# Altium integrated library TI Power Management LDO Single Channel(400-7500mA).IntLib: 1409 symbols (part 44 of 60)
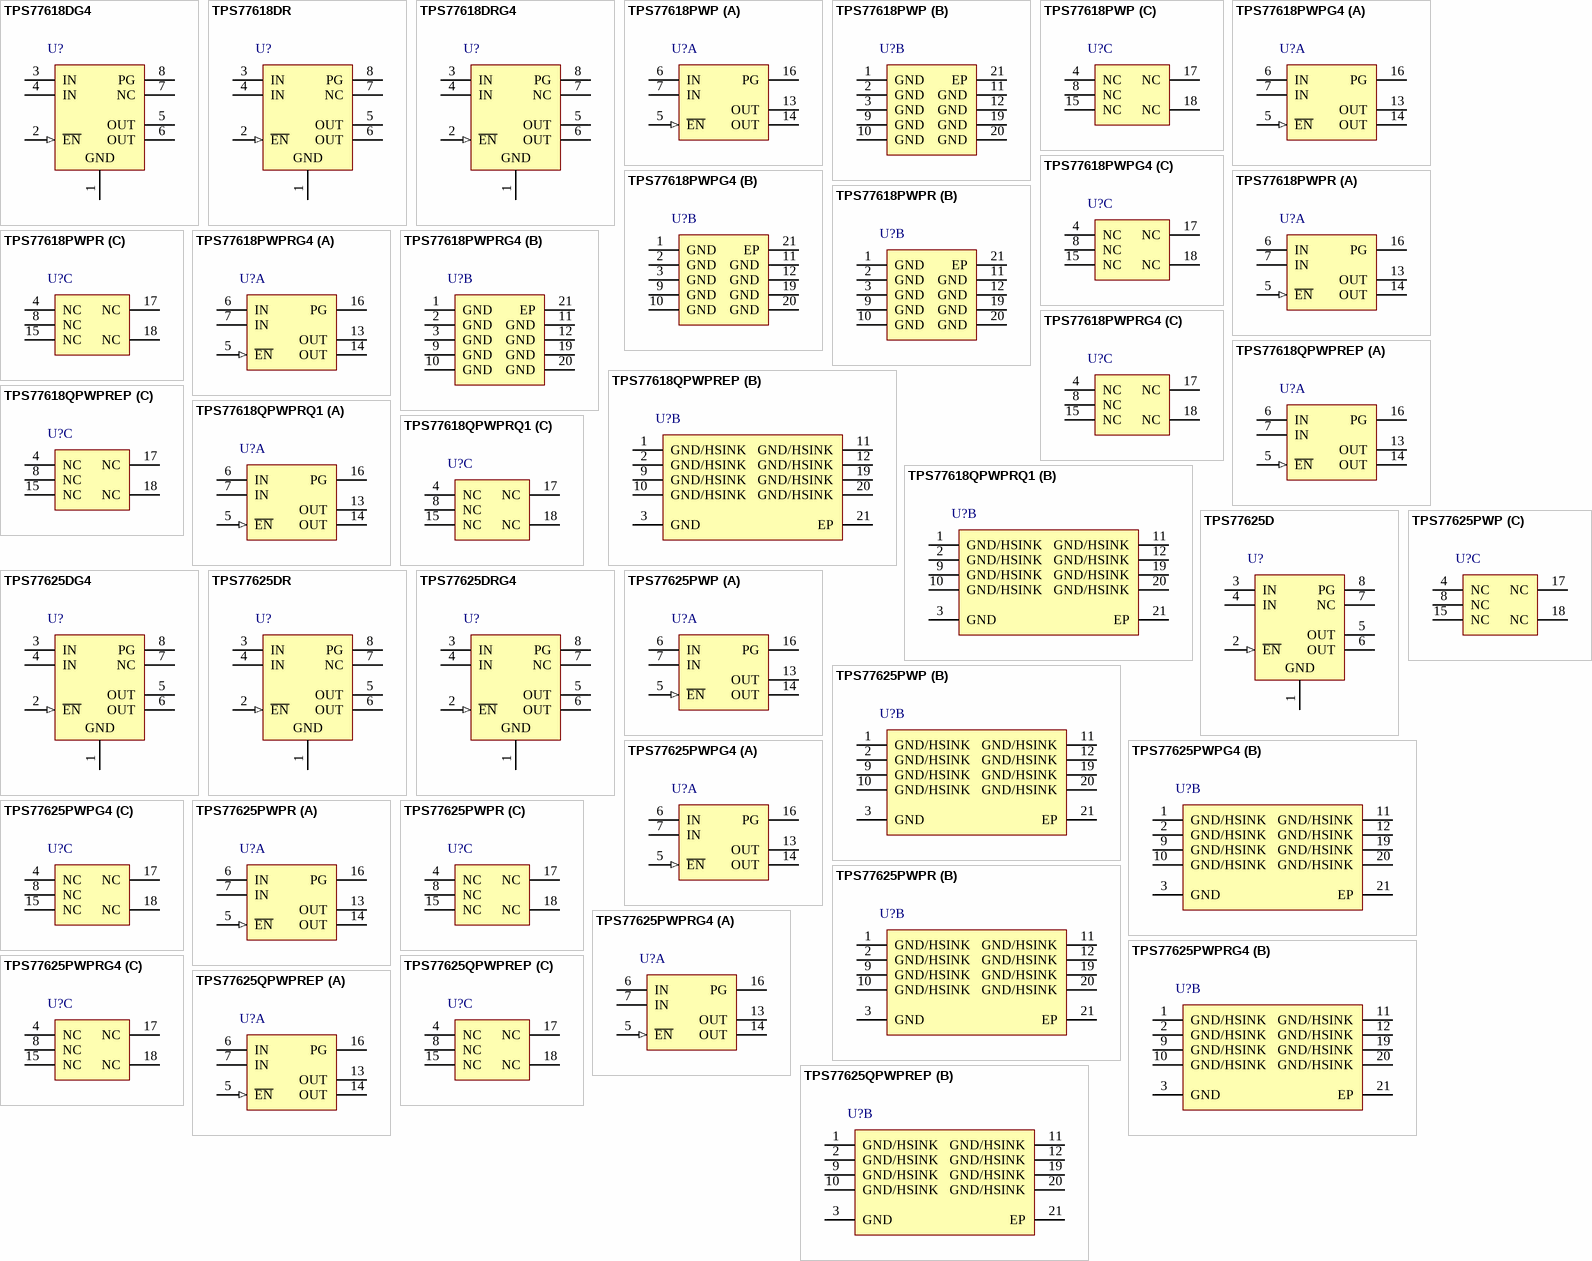
[diagram p93: symbols TPS77618DG4 to TPS77625QPWPREP]

## TPS77618QPWPREP
designator U?
Single Output Fast Transient Response LDO, 500 mA, Fixed 1.8 V Output, 2.7 to 10 V Input, 20-pin HTSSOP (PWP), -40 to 125 degC, Green (RoHS & no Sb/Br); Manufacturer: Texas Instruments; PartNumber: TPS77618QPWPREP; Accuracy(%): 2; Fixed Output Options(V): 1.8; Iout(Max)(A): 0.5; Iq(Typ)(mA): 0.08; Power Good: TRUE; SubFamily: Single Channel LDO; Vdo(Typ)(mV): 169; Vin(Max)(V): 10; Vin(Min)(V): 2.7; DatasheetVersion: SGLS176A; PackageVersion: 4073225-4/I; PackageReference: PWP20-2980X2000TP; PackageDescription: 20-Pin Plastic Small Outline, Body 4.4 x 6.5 mm, Pitch 0.65 mm; Supplier 1: Digi-Key; Supplier Part Number 1: 296-18168-2-ND; Supplier 2: Digi-Key; Supplier Part Number 2: 296-18168-1-ND; Supplier 3: Digi-Key; Supplier Part Number 3: 296-18168-6-ND; Supplier 4: Newark; Supplier Part Number 4: 46M1195; Supplier 5: Mouser; Supplier Part Number 5: 595-TPS77618QPWPREP; Eco-Plan: Green (RoHS & no Sb/Br); Vout Adj(Max)(V): 1.8; Vout Adj(Min)(V): 1.8; Mounting Technology: Surface Mount; Code_JEDEC: MO-153; ComponentLink1Description: Manufacturer URL; ComponentLink1URL: http://www.ti.com/; ComponentLink2Description: Datasheet; ComponentLink2URL: http://www.ti.com/general/docs/lit/getliterature.tsp?genericPartNumber=TPS77618-EP&fileType=pdf; ComponentLink3Description: Package Specification; ComponentLink3URL: http://www.ti.com/litv/pdf/mhts001g
footprint TI-PWP20-2980X2000TP_N (SOP, 20-Leads, Body 6.5x4.4mm, Pitch 0.65mm, Thermal Pad 2.975x2 mm, IPC Medium Density)
footprint TI-PWP20-2980X2000TP_L (SOP, 20-Leads, Body 6.5x4.4mm, Pitch 0.65mm, Thermal Pad 2.975x2 mm, IPC High Density)
footprint TI-PWP20-2980X2000TP_M (SOP, 20-Leads, Body 6.5x4.4mm, Pitch 0.65mm, Thermal Pad 2.975x2 mm, IPC Low Density)
part A pins: 5 ~{EN} (in) "Enable input", 6 IN (power) "Input voltage", 7 IN (power) "Input voltage", 13 OUT (power) "Regulated output voltage", 14 OUT (power) "Regulated output voltage", 16 PG (hiz) "PG output"
part B pins: 1 GND/HSINK (power) "Ground/heatsink", 2 GND/HSINK (power) "Ground/heatsink", 3 GND (power) "Regulator ground", 9 GND/HSINK (power) "Ground/heatsink", 10 GND/HSINK (power) "Ground/heatsink", 11 GND/HSINK (power) "Ground/heatsink", 12 GND/HSINK (power) "Ground/heatsink", 19 GND/HSINK (power) "Ground/heatsink", 20 GND/HSINK (power) "Ground/heatsink", 21 EP "Exposed Thermal Pad"
part C pins: 4 NC "No connect", 8 NC "No connect", 15 NC "No connect", 17 NC "No connect", 18 NC "No connect"

## TPS77618QPWPRQ1
designator U?
Single Output Automotive LDO, 500 mA, Fixed 1.8 V Output, 2.7 to 10 V Input, 20-pin HTSSOP (PWP), -40 to 125 degC, Green (RoHS & no Sb/Br); Manufacturer: Texas Instruments; PartNumber: TPS77618QPWPRQ1; Accuracy(%): 2; Fixed Output Options(V): 1.8; Iout(Max)(A): 0.5; Iq(Typ)(mA): 0.08; Power Good: TRUE; SubFamily: Single Channel LDO; Vdo(Typ)(mV): 169; Vin(Max)(V): 10; Vin(Min)(V): 2.7; DatasheetVersion: SGLS012B; PackageVersion: 4073225-4/I; PackageReference: PWP20-2980X2000TP; PackageDescription: 20-Pin Plastic Small Outline, Body 4.4 x 6.5 mm, Pitch 0.65 mm; Supplier 1: Digi-Key; Supplier Part Number 1: 296-15300-2-ND; Supplier 2: Digi-Key; Supplier Part Number 2: 296-15300-1-ND; Supplier 3: Digi-Key; Supplier Part Number 3: 296-15300-6-ND; Supplier 4: Mouser; Supplier Part Number 4: 595-TPS77618QPWPRQ1; Eco-Plan: Green (RoHS & no Sb/Br); Vout Adj(Max)(V): 1.8; Vout Adj(Min)(V): 1.8; Mounting Technology: Surface Mount; Code_JEDEC: MO-153; ComponentLink1Description: Manufacturer URL; ComponentLink1URL: http://www.ti.com/; ComponentLink2Description: Datasheet; ComponentLink2URL: http://www.ti.com/general/docs/lit/getliterature.tsp?genericPartNumber=TPS77618-Q1&fileType=pdf; ComponentLink3Description: Package Specification; ComponentLink3URL: http://www.ti.com/litv/pdf/mhts001g
footprint TI-PWP20-2980X2000TP_N (SOP, 20-Leads, Body 6.5x4.4mm, Pitch 0.65mm, Thermal Pad 2.975x2 mm, IPC Medium Density)
footprint TI-PWP20-2980X2000TP_L (SOP, 20-Leads, Body 6.5x4.4mm, Pitch 0.65mm, Thermal Pad 2.975x2 mm, IPC High Density)
footprint TI-PWP20-2980X2000TP_M (SOP, 20-Leads, Body 6.5x4.4mm, Pitch 0.65mm, Thermal Pad 2.975x2 mm, IPC Low Density)
part A pins: 5 ~{EN} (in) "Enable input", 6 IN (power) "Input voltage", 7 IN (power) "Input voltage", 13 OUT (power) "Regulated output voltage", 14 OUT (power) "Regulated output voltage", 16 PG (hiz) "PG output"
part B pins: 1 GND/HSINK (power) "Ground/heatsink", 2 GND/HSINK (power) "Ground/heatsink", 3 GND (power) "Regulator ground", 9 GND/HSINK (power) "Ground/heatsink", 10 GND/HSINK (power) "Ground/heatsink", 11 GND/HSINK (power) "Ground/heatsink", 12 GND/HSINK (power) "Ground/heatsink", 19 GND/HSINK (power) "Ground/heatsink", 20 GND/HSINK (power) "Ground/heatsink", 21 EP (power)
part C pins: 4 NC "No connect", 8 NC "No connect", 15 NC "No connect", 17 NC "No connect", 18 NC "No connect"

## TPS77625D
designator U?
Single Output Fast Transient Response LDO, 500 mA, Fixed 2.5 V Output, 2.7 to 10 V Input, with Power Good Output, 8-pin SOIC (D), -40 to 125 degC, Green (RoHS & no Sb/Br); Manufacturer: Texas Instruments; PartNumber: TPS77625D; Accuracy(%): 2; Fixed Output Options(V): 2.5; Iout(Max)(A): 0.5; Iq(Typ)(mA): 0.08; Power Good: TRUE; SubFamily: Single Channel LDO; Vdo(Typ)(mV): 285; Vin(Max)(V): 10; Vin(Min)(V): 2.7; DatasheetVersion: SLVS232J; PackageVersion: 4040047-3/M; PackageReference: D8; PackageDescription: 8-Pin Plastic Small Outline, Body 4.9 x 3.9 mm, Pitch 1.27 mm; Supplier 1: Digi-Key; Supplier Part Number 1: 296-2780-5-ND; Supplier 2: Farnell; Supplier Part Number 2: 8461651; Supplier 3: Newark; Supplier Part Number 3: 19C9103; Supplier 4: Mouser; Supplier Part Number 4: 595-TPS77625D; Eco-Plan: Green (RoHS & no Sb/Br); Vout Adj(Max)(V): 2.5; Vout Adj(Min)(V): 2.5; Mounting Technology: Surface Mount; Code_JEDEC: MS-012; ComponentLink1Description: Manufacturer URL; ComponentLink1URL: http://www.ti.com/; ComponentLink2Description: Datasheet; ComponentLink2URL: http://www.ti.com/general/docs/lit/getliterature.tsp?genericPartNumber=TPS77625&fileType=pdf; ComponentLink3Description: Package Specification; ComponentLink3URL: http://www.ti.com/litv/pdf/msoi002j
footprint TI-D8_N (SOIC, 8-Leads, Body 4.9x3.9mm, Pitch 1.27mm, IPC Medium Density)
footprint TI-D8_L (SOIC, 8-Leads, Body 4.9x3.9mm, Pitch 1.27mm, IPC High Density)
footprint TI-D8_M (SOIC, 8-Leads, Body 4.9x3.9mm, Pitch 1.27mm, IPC Low Density)
pins: 1 GND (power) "Ground", 2 ~{EN} (in) "Negative polarity enable (E\N\) input", 3 IN (power) "Input voltage", 4 IN (power) "Input voltage", 5 OUT (power) "Regulated output voltage", 6 OUT (power) "Regulated output voltage", 7 NC "No internal connection", 8 PG (hiz) "Open-drain power-good (PG) output."

## TPS77625DG4
designator U?
Single Output Fast Transient Response LDO, 500 mA, Fixed 2.5 V Output, 2.7 to 10 V Input, with Power Good Output, 8-pin SOIC (D), -40 to 125 degC, Green (RoHS & no Sb/Br); Manufacturer: Texas Instruments; PartNumber: TPS77625DG4; Accuracy(%): 2; Fixed Output Options(V): 2.5; Iout(Max)(A): 0.5; Iq(Typ)(mA): 0.08; Power Good: TRUE; SubFamily: Single Channel LDO; Vdo(Typ)(mV): 285; Vin(Max)(V): 10; Vin(Min)(V): 2.7; DatasheetVersion: SLVS232J; PackageVersion: 4040047-3/M; PackageReference: D8; PackageDescription: 8-Pin Plastic Small Outline, Body 4.9 x 3.9 mm, Pitch 1.27 mm; Supplier 1: Digi-Key; Supplier Part Number 1: TPS77625DG4-ND; Supplier 2: Mouser; Supplier Part Number 2: 595-TPS77625DG4; Eco-Plan: Green (RoHS & no Sb/Br); Vout Adj(Max)(V): 2.5; Vout Adj(Min)(V): 2.5; Mounting Technology: Surface Mount; Code_JEDEC: MS-012; ComponentLink1Description: Manufacturer URL; ComponentLink1URL: http://www.ti.com/; ComponentLink2Description: Datasheet; ComponentLink2URL: http://www.ti.com/general/docs/lit/getliterature.tsp?genericPartNumber=TPS77625&fileType=pdf; ComponentLink3Description: Package Specification; ComponentLink3URL: http://www.ti.com/litv/pdf/msoi002j
footprint TI-D8_N (SOIC, 8-Leads, Body 4.9x3.9mm, Pitch 1.27mm, IPC Medium Density)
footprint TI-D8_L (SOIC, 8-Leads, Body 4.9x3.9mm, Pitch 1.27mm, IPC High Density)
footprint TI-D8_M (SOIC, 8-Leads, Body 4.9x3.9mm, Pitch 1.27mm, IPC Low Density)
pins: 1 GND (power) "Ground", 2 ~{EN} (in) "Negative polarity enable (E\N\) input", 3 IN (power) "Input voltage", 4 IN (power) "Input voltage", 5 OUT (power) "Regulated output voltage", 6 OUT (power) "Regulated output voltage", 7 NC "No internal connection", 8 PG (hiz) "Open-drain power-good (PG) output."

## TPS77625DR
designator U?
Single Output Fast Transient Response LDO, 500 mA, Fixed 2.5 V Output, 2.7 to 10 V Input, with Power Good Output, 8-pin SOIC (D), -40 to 125 degC, Green (RoHS & no Sb/Br); Manufacturer: Texas Instruments; PartNumber: TPS77625DR; Accuracy(%): 2; Fixed Output Options(V): 2.5; Iout(Max)(A): 0.5; Iq(Typ)(mA): 0.08; Power Good: TRUE; SubFamily: Single Channel LDO; Vdo(Typ)(mV): 285; Vin(Max)(V): 10; Vin(Min)(V): 2.7; DatasheetVersion: SLVS232J; PackageVersion: 4040047-3/M; PackageReference: D8; PackageDescription: 8-Pin Plastic Small Outline, Body 4.9 x 3.9 mm, Pitch 1.27 mm; Supplier 1: Digi-Key; Supplier Part Number 1: TPS77625DR-ND; Supplier 2: Newark; Supplier Part Number 2: 77C1270; Supplier 3: Mouser; Supplier Part Number 3: 595-TPS77625DR; Eco-Plan: Green (RoHS & no Sb/Br); Vout Adj(Max)(V): 2.5; Vout Adj(Min)(V): 2.5; Mounting Technology: Surface Mount; Code_JEDEC: MS-012; ComponentLink1Description: Manufacturer URL; ComponentLink1URL: http://www.ti.com/; ComponentLink2Description: Datasheet; ComponentLink2URL: http://www.ti.com/general/docs/lit/getliterature.tsp?genericPartNumber=TPS77625&fileType=pdf; ComponentLink3Description: Package Specification; ComponentLink3URL: http://www.ti.com/litv/pdf/msoi002j
footprint TI-D8_N (SOIC, 8-Leads, Body 4.9x3.9mm, Pitch 1.27mm, IPC Medium Density)
footprint TI-D8_L (SOIC, 8-Leads, Body 4.9x3.9mm, Pitch 1.27mm, IPC High Density)
footprint TI-D8_M (SOIC, 8-Leads, Body 4.9x3.9mm, Pitch 1.27mm, IPC Low Density)
pins: 1 GND (power) "Ground", 2 ~{EN} (in) "Negative polarity enable (E\N\) input", 3 IN (power) "Input voltage", 4 IN (power) "Input voltage", 5 OUT (power) "Regulated output voltage", 6 OUT (power) "Regulated output voltage", 7 NC "No internal connection", 8 PG (hiz) "Open-drain power-good (PG) output."

## TPS77625DRG4
designator U?
Single Output Fast Transient Response LDO, 500 mA, Fixed 2.5 V Output, 2.7 to 10 V Input, with Power Good Output, 8-pin SOIC (D), -40 to 125 degC, Green (RoHS & no Sb/Br); Manufacturer: Texas Instruments; PartNumber: TPS77625DRG4; Accuracy(%): 2; Fixed Output Options(V): 2.5; Iout(Max)(A): 0.5; Iq(Typ)(mA): 0.08; Power Good: TRUE; SubFamily: Single Channel LDO; Vdo(Typ)(mV): 285; Vin(Max)(V): 10; Vin(Min)(V): 2.7; DatasheetVersion: SLVS232J; PackageVersion: 4040047-3/M; PackageReference: D8; PackageDescription: 8-Pin Plastic Small Outline, Body 4.9 x 3.9 mm, Pitch 1.27 mm; Supplier 1: Digi-Key; Supplier Part Number 1: TPS77625DRG4-ND; Supplier 2: Mouser; Supplier Part Number 2: 595-TPS77625DRG4; Eco-Plan: Green (RoHS & no Sb/Br); Vout Adj(Max)(V): 2.5; Vout Adj(Min)(V): 2.5; Mounting Technology: Surface Mount; Code_JEDEC: MS-012; ComponentLink1Description: Manufacturer URL; ComponentLink1URL: http://www.ti.com/; ComponentLink2Description: Datasheet; ComponentLink2URL: http://www.ti.com/general/docs/lit/getliterature.tsp?genericPartNumber=TPS77625&fileType=pdf; ComponentLink3Description: Package Specification; ComponentLink3URL: http://www.ti.com/litv/pdf/msoi002j
footprint TI-D8_N (SOIC, 8-Leads, Body 4.9x3.9mm, Pitch 1.27mm, IPC Medium Density)
footprint TI-D8_L (SOIC, 8-Leads, Body 4.9x3.9mm, Pitch 1.27mm, IPC High Density)
footprint TI-D8_M (SOIC, 8-Leads, Body 4.9x3.9mm, Pitch 1.27mm, IPC Low Density)
pins: 1 GND (power) "Ground", 2 ~{EN} (in) "Negative polarity enable (E\N\) input", 3 IN (power) "Input voltage", 4 IN (power) "Input voltage", 5 OUT (power) "Regulated output voltage", 6 OUT (power) "Regulated output voltage", 7 NC "No internal connection", 8 PG (hiz) "Open-drain power-good (PG) output."

## TPS77625PWP
designator U?
Single Output Fast Transient Response LDO, 500 mA, Fixed 2.5 V Output, 2.7 to 10 V Input, with Power Good Output, 20-pin HTSSOP (PWP), -40 to 125 degC, Green (RoHS & no Sb/Br); Manufacturer: Texas Instruments; PartNumber: TPS77625PWP; Accuracy(%): 2; Fixed Output Options(V): 2.5; Iout(Max)(A): 0.5; Iq(Typ)(mA): 0.08; Power Good: TRUE; SubFamily: Single Channel LDO; Vdo(Typ)(mV): 285; Vin(Max)(V): 10; Vin(Min)(V): 2.7; DatasheetVersion: SLVS232J; PackageVersion: 4073225-4/I; PackageReference: PWP20-2980X2000TP; PackageDescription: 20-Pin Plastic Small Outline, Body 4.4 x 6.5 mm, Pitch 0.65 mm; Supplier 1: Digi-Key; Supplier Part Number 1: 296-8129-5-ND; Supplier 2: Newark; Supplier Part Number 2: 77C1271; Supplier 3: Mouser; Supplier Part Number 3: 595-TPS77625PWP; Eco-Plan: Green (RoHS & no Sb/Br); Vout Adj(Max)(V): 2.5; Vout Adj(Min)(V): 2.5; Mounting Technology: Surface Mount; Code_JEDEC: MO-153; ComponentLink1Description: Manufacturer URL; ComponentLink1URL: http://www.ti.com/; ComponentLink2Description: Datasheet; ComponentLink2URL: http://www.ti.com/general/docs/lit/getliterature.tsp?genericPartNumber=TPS77625&fileType=pdf; ComponentLink3Description: Package Specification; ComponentLink3URL: http://www.ti.com/litv/pdf/mhts001g
footprint TI-PWP20-2980X2000TP_N (SOP, 20-Leads, Body 6.5x4.4mm, Pitch 0.65mm, Thermal Pad 2.975x2 mm, IPC Medium Density)
footprint TI-PWP20-2980X2000TP_L (SOP, 20-Leads, Body 6.5x4.4mm, Pitch 0.65mm, Thermal Pad 2.975x2 mm, IPC High Density)
footprint TI-PWP20-2980X2000TP_M (SOP, 20-Leads, Body 6.5x4.4mm, Pitch 0.65mm, Thermal Pad 2.975x2 mm, IPC Low Density)
part A pins: 5 ~{EN} (in) "Enable input", 6 IN (power) "Input voltage", 7 IN (power) "Input voltage", 13 OUT (power) "Regulated output voltage", 14 OUT (power) "Regulated output voltage", 16 PG (hiz) "PG output"
part B pins: 1 GND/HSINK (power) "Ground/heatsink", 2 GND/HSINK (power) "Ground/heatsink", 3 GND (power) "Regulator ground", 9 GND/HSINK (power) "Ground/heatsink", 10 GND/HSINK (power) "Ground/heatsink", 11 GND/HSINK (power) "Ground/heatsink", 12 GND/HSINK (power) "Ground/heatsink", 19 GND/HSINK (power) "Ground/heatsink", 20 GND/HSINK (power) "Ground/heatsink", 21 EP (power)
part C pins: 4 NC "No connect", 8 NC "No connect", 15 NC "No connect", 17 NC "No connect", 18 NC "No connect"

## TPS77625PWPG4
designator U?
Single Output Fast Transient Response LDO, 500 mA, Fixed 2.5 V Output, 2.7 to 10 V Input, with Power Good Output, 20-pin HTSSOP (PWP), -40 to 125 degC, Green (RoHS & no Sb/Br); Manufacturer: Texas Instruments; PartNumber: TPS77625PWPG4; Accuracy(%): 2; Fixed Output Options(V): 2.5; Iout(Max)(A): 0.5; Iq(Typ)(mA): 0.08; Power Good: TRUE; SubFamily: Single Channel LDO; Vdo(Typ)(mV): 285; Vin(Max)(V): 10; Vin(Min)(V): 2.7; DatasheetVersion: SLVS232J; PackageVersion: 4073225-4/I; PackageReference: PWP20-2980X2000TP; PackageDescription: 20-Pin Plastic Small Outline, Body 4.4 x 6.5 mm, Pitch 0.65 mm; Supplier 1: Digi-Key; Supplier Part Number 1: TPS77625PWPG4-ND; Supplier 2: Mouser; Supplier Part Number 2: 595-TPS77625PWPG4; Eco-Plan: Green (RoHS & no Sb/Br); Vout Adj(Max)(V): 2.5; Vout Adj(Min)(V): 2.5; Mounting Technology: Surface Mount; Code_JEDEC: MO-153; ComponentLink1Description: Manufacturer URL; ComponentLink1URL: http://www.ti.com/; ComponentLink2Description: Datasheet; ComponentLink2URL: http://www.ti.com/general/docs/lit/getliterature.tsp?genericPartNumber=TPS77625&fileType=pdf; ComponentLink3Description: Package Specification; ComponentLink3URL: http://www.ti.com/litv/pdf/mhts001g
footprint TI-PWP20-2980X2000TP_N (SOP, 20-Leads, Body 6.5x4.4mm, Pitch 0.65mm, Thermal Pad 2.975x2 mm, IPC Medium Density)
footprint TI-PWP20-2980X2000TP_L (SOP, 20-Leads, Body 6.5x4.4mm, Pitch 0.65mm, Thermal Pad 2.975x2 mm, IPC High Density)
footprint TI-PWP20-2980X2000TP_M (SOP, 20-Leads, Body 6.5x4.4mm, Pitch 0.65mm, Thermal Pad 2.975x2 mm, IPC Low Density)
part A pins: 5 ~{EN} (in) "Enable input", 6 IN (power) "Input voltage", 7 IN (power) "Input voltage", 13 OUT (power) "Regulated output voltage", 14 OUT (power) "Regulated output voltage", 16 PG (hiz) "PG output"
part B pins: 1 GND/HSINK (power) "Ground/heatsink", 2 GND/HSINK (power) "Ground/heatsink", 3 GND (power) "Regulator ground", 9 GND/HSINK (power) "Ground/heatsink", 10 GND/HSINK (power) "Ground/heatsink", 11 GND/HSINK (power) "Ground/heatsink", 12 GND/HSINK (power) "Ground/heatsink", 19 GND/HSINK (power) "Ground/heatsink", 20 GND/HSINK (power) "Ground/heatsink", 21 EP (power)
part C pins: 4 NC "No connect", 8 NC "No connect", 15 NC "No connect", 17 NC "No connect", 18 NC "No connect"

## TPS77625PWPR
designator U?
Single Output Fast Transient Response LDO, 500 mA, Fixed 2.5 V Output, 2.7 to 10 V Input, with Power Good Output, 20-pin HTSSOP (PWP), -40 to 125 degC, Green (RoHS & no Sb/Br); Manufacturer: Texas Instruments; PartNumber: TPS77625PWPR; Accuracy(%): 2; Fixed Output Options(V): 2.5; Iout(Max)(A): 0.5; Iq(Typ)(mA): 0.08; Power Good: TRUE; SubFamily: Single Channel LDO; Vdo(Typ)(mV): 285; Vin(Max)(V): 10; Vin(Min)(V): 2.7; DatasheetVersion: SLVS232J; PackageVersion: 4073225-4/I; PackageReference: PWP20-2980X2000TP; PackageDescription: 20-Pin Plastic Small Outline, Body 4.4 x 6.5 mm, Pitch 0.65 mm; Supplier 1: Digi-Key; Supplier Part Number 1: TPS77625PWPR-ND; Supplier 2: Mouser; Supplier Part Number 2: 595-TPS77625PWPR; Eco-Plan: Green (RoHS & no Sb/Br); Vout Adj(Max)(V): 2.5; Vout Adj(Min)(V): 2.5; Mounting Technology: Surface Mount; Code_JEDEC: MO-153; ComponentLink1Description: Manufacturer URL; ComponentLink1URL: http://www.ti.com/; ComponentLink2Description: Datasheet; ComponentLink2URL: http://www.ti.com/general/docs/lit/getliterature.tsp?genericPartNumber=TPS77625&fileType=pdf; ComponentLink3Description: Package Specification; ComponentLink3URL: http://www.ti.com/litv/pdf/mhts001g
footprint TI-PWP20-2980X2000TP_N (SOP, 20-Leads, Body 6.5x4.4mm, Pitch 0.65mm, Thermal Pad 2.975x2 mm, IPC Medium Density)
footprint TI-PWP20-2980X2000TP_L (SOP, 20-Leads, Body 6.5x4.4mm, Pitch 0.65mm, Thermal Pad 2.975x2 mm, IPC High Density)
footprint TI-PWP20-2980X2000TP_M (SOP, 20-Leads, Body 6.5x4.4mm, Pitch 0.65mm, Thermal Pad 2.975x2 mm, IPC Low Density)
part A pins: 5 ~{EN} (in) "Enable input", 6 IN (power) "Input voltage", 7 IN (power) "Input voltage", 13 OUT (power) "Regulated output voltage", 14 OUT (power) "Regulated output voltage", 16 PG (hiz) "PG output"
part B pins: 1 GND/HSINK (power) "Ground/heatsink", 2 GND/HSINK (power) "Ground/heatsink", 3 GND (power) "Regulator ground", 9 GND/HSINK (power) "Ground/heatsink", 10 GND/HSINK (power) "Ground/heatsink", 11 GND/HSINK (power) "Ground/heatsink", 12 GND/HSINK (power) "Ground/heatsink", 19 GND/HSINK (power) "Ground/heatsink", 20 GND/HSINK (power) "Ground/heatsink", 21 EP (power)
part C pins: 4 NC "No connect", 8 NC "No connect", 15 NC "No connect", 17 NC "No connect", 18 NC "No connect"

## TPS77625PWPRG4
designator U?
Single Output Fast Transient Response LDO, 500 mA, Fixed 2.5 V Output, 2.7 to 10 V Input, with Power Good Output, 20-pin HTSSOP (PWP), -40 to 125 degC, Green (RoHS & no Sb/Br); Manufacturer: Texas Instruments; PartNumber: TPS77625PWPRG4; Accuracy(%): 2; Fixed Output Options(V): 2.5; Iout(Max)(A): 0.5; Iq(Typ)(mA): 0.08; Power Good: TRUE; SubFamily: Single Channel LDO; Vdo(Typ)(mV): 285; Vin(Max)(V): 10; Vin(Min)(V): 2.7; DatasheetVersion: SLVS232J; PackageVersion: 4073225-4/I; PackageReference: PWP20-2980X2000TP; PackageDescription: 20-Pin Plastic Small Outline, Body 4.4 x 6.5 mm, Pitch 0.65 mm; Supplier 1: Digi-Key; Supplier Part Number 1: TPS77625PWPRG4-ND; Supplier 2: Mouser; Supplier Part Number 2: 595-TPS77625PWPRG4; Eco-Plan: Green (RoHS & no Sb/Br); Vout Adj(Max)(V): 2.5; Vout Adj(Min)(V): 2.5; Mounting Technology: Surface Mount; Code_JEDEC: MO-153; ComponentLink1Description: Manufacturer URL; ComponentLink1URL: http://www.ti.com/; ComponentLink2Description: Datasheet; ComponentLink2URL: http://www.ti.com/general/docs/lit/getliterature.tsp?genericPartNumber=TPS77625&fileType=pdf; ComponentLink3Description: Package Specification; ComponentLink3URL: http://www.ti.com/litv/pdf/mhts001g
footprint TI-PWP20-2980X2000TP_N (SOP, 20-Leads, Body 6.5x4.4mm, Pitch 0.65mm, Thermal Pad 2.975x2 mm, IPC Medium Density)
footprint TI-PWP20-2980X2000TP_L (SOP, 20-Leads, Body 6.5x4.4mm, Pitch 0.65mm, Thermal Pad 2.975x2 mm, IPC High Density)
footprint TI-PWP20-2980X2000TP_M (SOP, 20-Leads, Body 6.5x4.4mm, Pitch 0.65mm, Thermal Pad 2.975x2 mm, IPC Low Density)
part A pins: 5 ~{EN} (in) "Enable input", 6 IN (power) "Input voltage", 7 IN (power) "Input voltage", 13 OUT (power) "Regulated output voltage", 14 OUT (power) "Regulated output voltage", 16 PG (hiz) "PG output"
part B pins: 1 GND/HSINK (power) "Ground/heatsink", 2 GND/HSINK (power) "Ground/heatsink", 3 GND (power) "Regulator ground", 9 GND/HSINK (power) "Ground/heatsink", 10 GND/HSINK (power) "Ground/heatsink", 11 GND/HSINK (power) "Ground/heatsink", 12 GND/HSINK (power) "Ground/heatsink", 19 GND/HSINK (power) "Ground/heatsink", 20 GND/HSINK (power) "Ground/heatsink", 21 EP (power)
part C pins: 4 NC "No connect", 8 NC "No connect", 15 NC "No connect", 17 NC "No connect", 18 NC "No connect"

## TPS77625QPWPREP
designator U?
Single Output Fast Transient Response LDO, 500 mA, Fixed 2.5 V Output, 2.7 to 10 V Input, 20-pin HTSSOP (PWP), -40 to 125 degC, Green (RoHS & no Sb/Br); Manufacturer: Texas Instruments; PartNumber: TPS77625QPWPREP; Accuracy(%): 2; Fixed Output Options(V): 2.5; Iout(Max)(A): 0.5; Iq(Typ)(mA): 0.08; Power Good: TRUE; SubFamily: Single Channel LDO; Vdo(Typ)(mV): 169; Vin(Max)(V): 10; Vin(Min)(V): 2.7; DatasheetVersion: SGLS176A; PackageVersion: 4073225-4/I; PackageReference: PWP20-2980X2000TP; PackageDescription: 20-Pin Plastic Small Outline, Body 4.4 x 6.5 mm, Pitch 0.65 mm; Supplier 1: Digi-Key; Supplier Part Number 1: 296-22521-2-ND; Supplier 2: Digi-Key; Supplier Part Number 2: 296-22521-1-ND; Supplier 3: Digi-Key; Supplier Part Number 3: 296-22521-6-ND; Supplier 4: Newark; Supplier Part Number 4: 46M1196; Supplier 5: Mouser; Supplier Part Number 5: 595-TPS77625QPWPREP; Eco-Plan: Green (RoHS & no Sb/Br); Vout Adj(Max)(V): 2.5; Vout Adj(Min)(V): 2.5; Mounting Technology: Surface Mount; Code_JEDEC: MO-153; ComponentLink1Description: Manufacturer URL; ComponentLink1URL: http://www.ti.com/; ComponentLink2Description: Datasheet; ComponentLink2URL: http://www.ti.com/general/docs/lit/getliterature.tsp?genericPartNumber=TPS77625-EP&fileType=pdf; ComponentLink3Description: Package Specification; ComponentLink3URL: http://www.ti.com/litv/pdf/mhts001g
footprint TI-PWP20-2980X2000TP_N (SOP, 20-Leads, Body 6.5x4.4mm, Pitch 0.65mm, Thermal Pad 2.975x2 mm, IPC Medium Density)
footprint TI-PWP20-2980X2000TP_L (SOP, 20-Leads, Body 6.5x4.4mm, Pitch 0.65mm, Thermal Pad 2.975x2 mm, IPC High Density)
footprint TI-PWP20-2980X2000TP_M (SOP, 20-Leads, Body 6.5x4.4mm, Pitch 0.65mm, Thermal Pad 2.975x2 mm, IPC Low Density)
part A pins: 5 ~{EN} (in) "Enable input", 6 IN (power) "Input voltage", 7 IN (power) "Input voltage", 13 OUT (power) "Regulated output voltage", 14 OUT (power) "Regulated output voltage", 16 PG (hiz) "PG output"
part B pins: 1 GND/HSINK (power) "Ground/heatsink", 2 GND/HSINK (power) "Ground/heatsink", 3 GND (power) "Regulator ground", 9 GND/HSINK (power) "Ground/heatsink", 10 GND/HSINK (power) "Ground/heatsink", 11 GND/HSINK (power) "Ground/heatsink", 12 GND/HSINK (power) "Ground/heatsink", 19 GND/HSINK (power) "Ground/heatsink", 20 GND/HSINK (power) "Ground/heatsink", 21 EP "Exposed Thermal Pad"
part C pins: 4 NC "No connect", 8 NC "No connect", 15 NC "No connect", 17 NC "No connect", 18 NC "No connect"

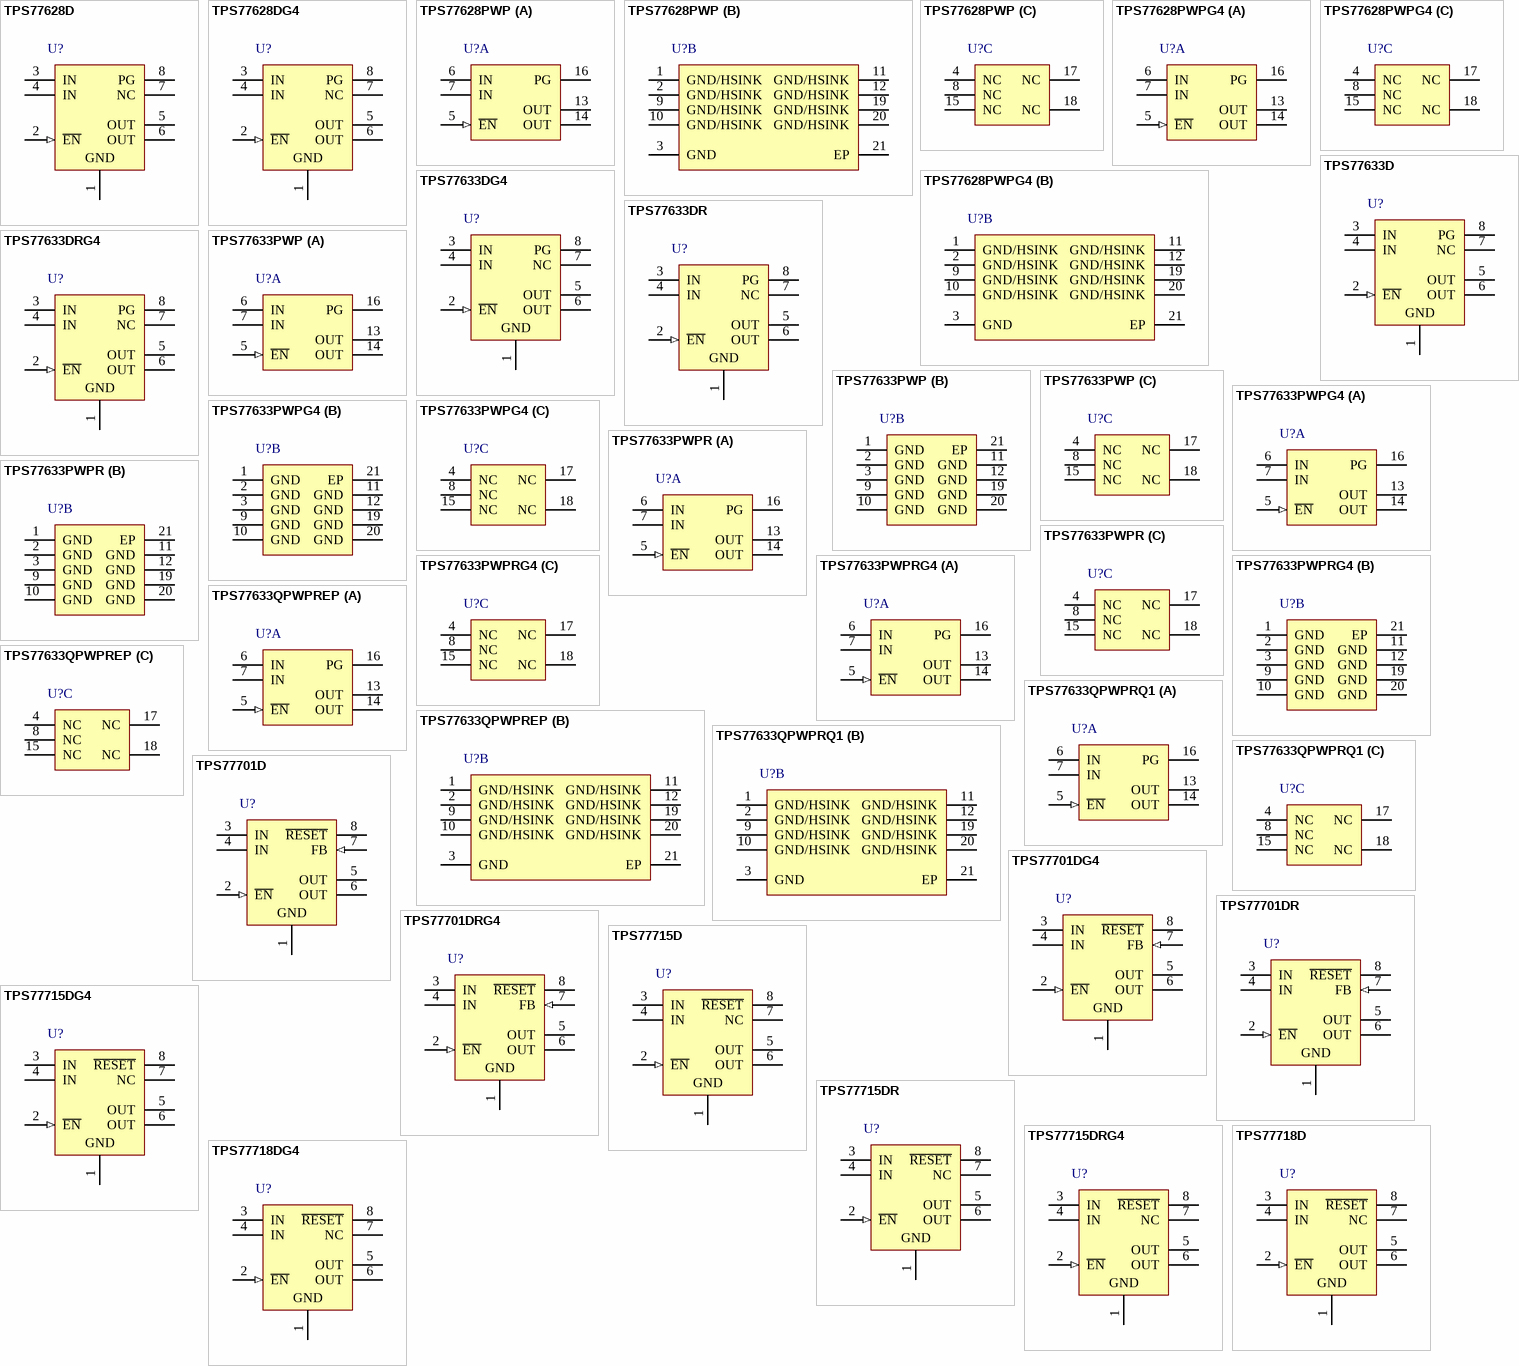
[diagram p39: symbols TPS77628D to TPS77718DG4]

## TPS77628D
designator U?
Single Output Fast Transient Response LDO, 500 mA, Fixed 2.8 V Output, 2.7 to 10 V Input, with Power Good Output, 8-pin SOIC (D), -40 to 125 degC, Green (RoHS & no Sb/Br); Manufacturer: Texas Instruments; PartNumber: TPS77628D; Accuracy(%): 2; Fixed Output Options(V): 2.8; Iout(Max)(A): 0.5; Iq(Typ)(mA): 0.08; Power Good: TRUE; SubFamily: Single Channel LDO; Vdo(Typ)(mV): 285; Vin(Max)(V): 10; Vin(Min)(V): 2.7; DatasheetVersion: SLVS232J; PackageVersion: 4040047-3/M; PackageReference: D8; PackageDescription: 8-Pin Plastic Small Outline, Body 4.9 x 3.9 mm, Pitch 1.27 mm; Supplier 1: Digi-Key; Supplier Part Number 1: 296-2781-5-ND; Supplier 2: Mouser; Supplier Part Number 2: 595-TPS77628D; Eco-Plan: Green (RoHS & no Sb/Br); Vout Adj(Max)(V): 2.8; Vout Adj(Min)(V): 2.8; Mounting Technology: Surface Mount; Code_JEDEC: MS-012; ComponentLink1Description: Manufacturer URL; ComponentLink1URL: http://www.ti.com/; ComponentLink2Description: Datasheet; ComponentLink2URL: http://www.ti.com/general/docs/lit/getliterature.tsp?genericPartNumber=TPS77628&fileType=pdf; ComponentLink3Description: Package Specification; ComponentLink3URL: http://www.ti.com/litv/pdf/msoi002j
footprint TI-D8_N (SOIC, 8-Leads, Body 4.9x3.9mm, Pitch 1.27mm, IPC Medium Density)
footprint TI-D8_L (SOIC, 8-Leads, Body 4.9x3.9mm, Pitch 1.27mm, IPC High Density)
footprint TI-D8_M (SOIC, 8-Leads, Body 4.9x3.9mm, Pitch 1.27mm, IPC Low Density)
pins: 1 GND (power) "Ground", 2 ~{EN} (in) "Negative polarity enable (E\N\) input", 3 IN (power) "Input voltage", 4 IN (power) "Input voltage", 5 OUT (power) "Regulated output voltage", 6 OUT (power) "Regulated output voltage", 7 NC "No internal connection", 8 PG (hiz) "Open-drain power-good (PG) output."

## TPS77628DG4
designator U?
Single Output Fast Transient Response LDO, 500 mA, Fixed 2.8 V Output, 2.7 to 10 V Input, with Power Good Output, 8-pin SOIC (D), -40 to 125 degC, Green (RoHS & no Sb/Br); Manufacturer: Texas Instruments; PartNumber: TPS77628DG4; Accuracy(%): 2; Fixed Output Options(V): 2.8; Iout(Max)(A): 0.5; Iq(Typ)(mA): 0.08; Power Good: TRUE; SubFamily: Single Channel LDO; Vdo(Typ)(mV): 285; Vin(Max)(V): 10; Vin(Min)(V): 2.7; DatasheetVersion: SLVS232J; PackageVersion: 4040047-3/M; PackageReference: D8; PackageDescription: 8-Pin Plastic Small Outline, Body 4.9 x 3.9 mm, Pitch 1.27 mm; Supplier 1: Digi-Key; Supplier Part Number 1: TPS77628DG4-ND; Supplier 2: Mouser; Supplier Part Number 2: 595-TPS77628DG4; Eco-Plan: Green (RoHS & no Sb/Br); Vout Adj(Max)(V): 2.8; Vout Adj(Min)(V): 2.8; Mounting Technology: Surface Mount; Code_JEDEC: MS-012; ComponentLink1Description: Manufacturer URL; ComponentLink1URL: http://www.ti.com/; ComponentLink2Description: Datasheet; ComponentLink2URL: http://www.ti.com/general/docs/lit/getliterature.tsp?genericPartNumber=TPS77628&fileType=pdf; ComponentLink3Description: Package Specification; ComponentLink3URL: http://www.ti.com/litv/pdf/msoi002j
footprint TI-D8_N (SOIC, 8-Leads, Body 4.9x3.9mm, Pitch 1.27mm, IPC Medium Density)
footprint TI-D8_L (SOIC, 8-Leads, Body 4.9x3.9mm, Pitch 1.27mm, IPC High Density)
footprint TI-D8_M (SOIC, 8-Leads, Body 4.9x3.9mm, Pitch 1.27mm, IPC Low Density)
pins: 1 GND (power) "Ground", 2 ~{EN} (in) "Negative polarity enable (E\N\) input", 3 IN (power) "Input voltage", 4 IN (power) "Input voltage", 5 OUT (power) "Regulated output voltage", 6 OUT (power) "Regulated output voltage", 7 NC "No internal connection", 8 PG (hiz) "Open-drain power-good (PG) output."

## TPS77628PWP
designator U?
Single Output Fast Transient Response LDO, 500 mA, Fixed 2.8 V Output, 2.7 to 10 V Input, with Power Good Output, 20-pin HTSSOP (PWP), -40 to 125 degC, Green (RoHS & no Sb/Br); Manufacturer: Texas Instruments; PartNumber: TPS77628PWP; Accuracy(%): 2; Fixed Output Options(V): 2.8; Iout(Max)(A): 0.5; Iq(Typ)(mA): 0.08; Power Good: TRUE; SubFamily: Single Channel LDO; Vdo(Typ)(mV): 285; Vin(Max)(V): 10; Vin(Min)(V): 2.7; DatasheetVersion: SLVS232J; PackageVersion: 4073225-4/I; PackageReference: PWP20-2980X2000TP; PackageDescription: 20-Pin Plastic Small Outline, Body 4.4 x 6.5 mm, Pitch 0.65 mm; Supplier 1: Digi-Key; Supplier Part Number 1: 296-8130-5-ND; Supplier 2: Newark; Supplier Part Number 2: 77C1274; Supplier 3: Mouser; Supplier Part Number 3: 595-TPS77628PWP; Eco-Plan: Green (RoHS & no Sb/Br); Vout Adj(Max)(V): 2.8; Vout Adj(Min)(V): 2.8; Mounting Technology: Surface Mount; Code_JEDEC: MO-153; ComponentLink1Description: Manufacturer URL; ComponentLink1URL: http://www.ti.com/; ComponentLink2Description: Datasheet; ComponentLink2URL: http://www.ti.com/general/docs/lit/getliterature.tsp?genericPartNumber=TPS77628&fileType=pdf; ComponentLink3Description: Package Specification; ComponentLink3URL: http://www.ti.com/litv/pdf/mhts001g
footprint TI-PWP20-2980X2000TP_N (SOP, 20-Leads, Body 6.5x4.4mm, Pitch 0.65mm, Thermal Pad 2.975x2 mm, IPC Medium Density)
footprint TI-PWP20-2980X2000TP_L (SOP, 20-Leads, Body 6.5x4.4mm, Pitch 0.65mm, Thermal Pad 2.975x2 mm, IPC High Density)
footprint TI-PWP20-2980X2000TP_M (SOP, 20-Leads, Body 6.5x4.4mm, Pitch 0.65mm, Thermal Pad 2.975x2 mm, IPC Low Density)
part A pins: 5 ~{EN} (in) "Enable input", 6 IN (power) "Input voltage", 7 IN (power) "Input voltage", 13 OUT (power) "Regulated output voltage", 14 OUT (power) "Regulated output voltage", 16 PG (hiz) "PG output"
part B pins: 1 GND/HSINK (power) "Ground/heatsink", 2 GND/HSINK (power) "Ground/heatsink", 3 GND (power) "Regulator ground", 9 GND/HSINK (power) "Ground/heatsink", 10 GND/HSINK (power) "Ground/heatsink", 11 GND/HSINK (power) "Ground/heatsink", 12 GND/HSINK (power) "Ground/heatsink", 19 GND/HSINK (power) "Ground/heatsink", 20 GND/HSINK (power) "Ground/heatsink", 21 EP (power)
part C pins: 4 NC "No connect", 8 NC "No connect", 15 NC "No connect", 17 NC "No connect", 18 NC "No connect"

## TPS77628PWPG4
designator U?
Single Output Fast Transient Response LDO, 500 mA, Fixed 2.8 V Output, 2.7 to 10 V Input, with Power Good Output, 20-pin HTSSOP (PWP), -40 to 125 degC, Green (RoHS & no Sb/Br); Manufacturer: Texas Instruments; PartNumber: TPS77628PWPG4; Accuracy(%): 2; Fixed Output Options(V): 2.8; Iout(Max)(A): 0.5; Iq(Typ)(mA): 0.08; Power Good: TRUE; SubFamily: Single Channel LDO; Vdo(Typ)(mV): 285; Vin(Max)(V): 10; Vin(Min)(V): 2.7; DatasheetVersion: SLVS232J; PackageVersion: 4073225-4/I; PackageReference: PWP20-2980X2000TP; PackageDescription: 20-Pin Plastic Small Outline, Body 4.4 x 6.5 mm, Pitch 0.65 mm; Supplier 1: Digi-Key; Supplier Part Number 1: TPS77628PWPG4-ND; Supplier 2: Mouser; Supplier Part Number 2: 595-TPS77628PWPG4; Eco-Plan: Green (RoHS & no Sb/Br); Vout Adj(Max)(V): 2.8; Vout Adj(Min)(V): 2.8; Mounting Technology: Surface Mount; Code_JEDEC: MO-153; ComponentLink1Description: Manufacturer URL; ComponentLink1URL: http://www.ti.com/; ComponentLink2Description: Datasheet; ComponentLink2URL: http://www.ti.com/general/docs/lit/getliterature.tsp?genericPartNumber=TPS77628&fileType=pdf; ComponentLink3Description: Package Specification; ComponentLink3URL: http://www.ti.com/litv/pdf/mhts001g
footprint TI-PWP20-2980X2000TP_N (SOP, 20-Leads, Body 6.5x4.4mm, Pitch 0.65mm, Thermal Pad 2.975x2 mm, IPC Medium Density)
footprint TI-PWP20-2980X2000TP_L (SOP, 20-Leads, Body 6.5x4.4mm, Pitch 0.65mm, Thermal Pad 2.975x2 mm, IPC High Density)
footprint TI-PWP20-2980X2000TP_M (SOP, 20-Leads, Body 6.5x4.4mm, Pitch 0.65mm, Thermal Pad 2.975x2 mm, IPC Low Density)
part A pins: 5 ~{EN} (in) "Enable input", 6 IN (power) "Input voltage", 7 IN (power) "Input voltage", 13 OUT (power) "Regulated output voltage", 14 OUT (power) "Regulated output voltage", 16 PG (hiz) "PG output"
part B pins: 1 GND/HSINK (power) "Ground/heatsink", 2 GND/HSINK (power) "Ground/heatsink", 3 GND (power) "Regulator ground", 9 GND/HSINK (power) "Ground/heatsink", 10 GND/HSINK (power) "Ground/heatsink", 11 GND/HSINK (power) "Ground/heatsink", 12 GND/HSINK (power) "Ground/heatsink", 19 GND/HSINK (power) "Ground/heatsink", 20 GND/HSINK (power) "Ground/heatsink", 21 EP (power)
part C pins: 4 NC "No connect", 8 NC "No connect", 15 NC "No connect", 17 NC "No connect", 18 NC "No connect"

## TPS77633D
designator U?
Single Output Fast Transient Response LDO, 500 mA, Fixed 3.3 V Output, 2.7 to 10 V Input, with Power Good Output, 8-pin SOIC (D), -40 to 125 degC, Green (RoHS & no Sb/Br); Manufacturer: Texas Instruments; PartNumber: TPS77633D; Accuracy(%): 2; Fixed Output Options(V): 3.3; Iout(Max)(A): 0.5; Iq(Typ)(mA): 0.08; Power Good: TRUE; SubFamily: Single Channel LDO; Vdo(Typ)(mV): 169; Vin(Max)(V): 10; Vin(Min)(V): 2.7; DatasheetVersion: SLVS232J; PackageVersion: 4040047-3/M; PackageReference: D8; PackageDescription: 8-Pin Plastic Small Outline, Body 4.9 x 3.9 mm, Pitch 1.27 mm; Supplier 1: Digi-Key; Supplier Part Number 1: 296-2782-5-ND; Supplier 2: Farnell; Supplier Part Number 2: 8461660; Supplier 3: Newark; Supplier Part Number 3: 19C9105; Supplier 4: Mouser; Supplier Part Number 4: 595-TPS77633D; Eco-Plan: Green (RoHS & no Sb/Br); Vout Adj(Max)(V): 3.3; Vout Adj(Min)(V): 3.3; Mounting Technology: Surface Mount; Code_JEDEC: MS-012; ComponentLink1Description: Manufacturer URL; ComponentLink1URL: http://www.ti.com/; ComponentLink2Description: Datasheet; ComponentLink2URL: http://www.ti.com/general/docs/lit/getliterature.tsp?genericPartNumber=TPS77633&fileType=pdf; ComponentLink3Description: Package Specification; ComponentLink3URL: http://www.ti.com/litv/pdf/msoi002j
footprint TI-D8_N (SOIC, 8-Leads, Body 4.9x3.9mm, Pitch 1.27mm, IPC Medium Density)
footprint TI-D8_L (SOIC, 8-Leads, Body 4.9x3.9mm, Pitch 1.27mm, IPC High Density)
footprint TI-D8_M (SOIC, 8-Leads, Body 4.9x3.9mm, Pitch 1.27mm, IPC Low Density)
pins: 1 GND (power) "Ground", 2 ~{EN} (in) "Negative polarity enable (E\N\) input", 3 IN (power) "Input voltage", 4 IN (power) "Input voltage", 5 OUT (power) "Regulated output voltage", 6 OUT (power) "Regulated output voltage", 7 NC "No internal connection", 8 PG (hiz) "Open-drain power-good (PG) output."

## TPS77633DG4
designator U?
Single Output Fast Transient Response LDO, 500 mA, Fixed 3.3 V Output, 2.7 to 10 V Input, with Power Good Output, 8-pin SOIC (D), -40 to 125 degC, Green (RoHS & no Sb/Br); Manufacturer: Texas Instruments; PartNumber: TPS77633DG4; Accuracy(%): 2; Fixed Output Options(V): 3.3; Iout(Max)(A): 0.5; Iq(Typ)(mA): 0.08; Power Good: TRUE; SubFamily: Single Channel LDO; Vdo(Typ)(mV): 169; Vin(Max)(V): 10; Vin(Min)(V): 2.7; DatasheetVersion: SLVS232J; PackageVersion: 4040047-3/M; PackageReference: D8; PackageDescription: 8-Pin Plastic Small Outline, Body 4.9 x 3.9 mm, Pitch 1.27 mm; Supplier 1: Digi-Key; Supplier Part Number 1: TPS77633DG4-ND; Supplier 2: Mouser; Supplier Part Number 2: 595-TPS77633DG4; Eco-Plan: Green (RoHS & no Sb/Br); Vout Adj(Max)(V): 3.3; Vout Adj(Min)(V): 3.3; Mounting Technology: Surface Mount; Code_JEDEC: MS-012; ComponentLink1Description: Manufacturer URL; ComponentLink1URL: http://www.ti.com/; ComponentLink2Description: Datasheet; ComponentLink2URL: http://www.ti.com/general/docs/lit/getliterature.tsp?genericPartNumber=TPS77633&fileType=pdf; ComponentLink3Description: Package Specification; ComponentLink3URL: http://www.ti.com/litv/pdf/msoi002j
footprint TI-D8_N (SOIC, 8-Leads, Body 4.9x3.9mm, Pitch 1.27mm, IPC Medium Density)
footprint TI-D8_L (SOIC, 8-Leads, Body 4.9x3.9mm, Pitch 1.27mm, IPC High Density)
footprint TI-D8_M (SOIC, 8-Leads, Body 4.9x3.9mm, Pitch 1.27mm, IPC Low Density)
pins: 1 GND (power) "Ground", 2 ~{EN} (in) "Negative polarity enable (E\N\) input", 3 IN (power) "Input voltage", 4 IN (power) "Input voltage", 5 OUT (power) "Regulated output voltage", 6 OUT (power) "Regulated output voltage", 7 NC "No internal connection", 8 PG (hiz) "Open-drain power-good (PG) output."

## TPS77633DR
designator U?
Single Output Fast Transient Response LDO, 500 mA, Fixed 3.3 V Output, 2.7 to 10 V Input, with Power Good Output, 8-pin SOIC (D), -40 to 125 degC, Green (RoHS & no Sb/Br); Manufacturer: Texas Instruments; PartNumber: TPS77633DR; Accuracy(%): 2; Fixed Output Options(V): 3.3; Iout(Max)(A): 0.5; Iq(Typ)(mA): 0.08; Power Good: TRUE; SubFamily: Single Channel LDO; Vdo(Typ)(mV): 169; Vin(Max)(V): 10; Vin(Min)(V): 2.7; DatasheetVersion: SLVS232J; PackageVersion: 4040047-3/M; PackageReference: D8; PackageDescription: 8-Pin Plastic Small Outline, Body 4.9 x 3.9 mm, Pitch 1.27 mm; Supplier 1: Digi-Key; Supplier Part Number 1: TPS77633DR-ND; Supplier 2: Newark; Supplier Part Number 2: 77C1276; Supplier 3: Mouser; Supplier Part Number 3: 595-TPS77633DR; Eco-Plan: Green (RoHS & no Sb/Br); Vout Adj(Max)(V): 3.3; Vout Adj(Min)(V): 3.3; Mounting Technology: Surface Mount; Code_JEDEC: MS-012; ComponentLink1Description: Manufacturer URL; ComponentLink1URL: http://www.ti.com/; ComponentLink2Description: Datasheet; ComponentLink2URL: http://www.ti.com/general/docs/lit/getliterature.tsp?genericPartNumber=TPS77633&fileType=pdf; ComponentLink3Description: Package Specification; ComponentLink3URL: http://www.ti.com/litv/pdf/msoi002j
footprint TI-D8_N (SOIC, 8-Leads, Body 4.9x3.9mm, Pitch 1.27mm, IPC Medium Density)
footprint TI-D8_L (SOIC, 8-Leads, Body 4.9x3.9mm, Pitch 1.27mm, IPC High Density)
footprint TI-D8_M (SOIC, 8-Leads, Body 4.9x3.9mm, Pitch 1.27mm, IPC Low Density)
pins: 1 GND (power) "Ground", 2 ~{EN} (in) "Negative polarity enable (E\N\) input", 3 IN (power) "Input voltage", 4 IN (power) "Input voltage", 5 OUT (power) "Regulated output voltage", 6 OUT (power) "Regulated output voltage", 7 NC "No internal connection", 8 PG (hiz) "Open-drain power-good (PG) output."

## TPS77633DRG4
designator U?
Single Output Fast Transient Response LDO, 500 mA, Fixed 3.3 V Output, 2.7 to 10 V Input, with Power Good Output, 8-pin SOIC (D), -40 to 125 degC, Green (RoHS & no Sb/Br); Manufacturer: Texas Instruments; PartNumber: TPS77633DRG4; Accuracy(%): 2; Fixed Output Options(V): 3.3; Iout(Max)(A): 0.5; Iq(Typ)(mA): 0.08; Power Good: TRUE; SubFamily: Single Channel LDO; Vdo(Typ)(mV): 169; Vin(Max)(V): 10; Vin(Min)(V): 2.7; DatasheetVersion: SLVS232J; PackageVersion: 4040047-3/M; PackageReference: D8; PackageDescription: 8-Pin Plastic Small Outline, Body 4.9 x 3.9 mm, Pitch 1.27 mm; Supplier 1: Digi-Key; Supplier Part Number 1: TPS77633DRG4-ND; Supplier 2: Newark; Supplier Part Number 2: 54K1902; Supplier 3: Mouser; Supplier Part Number 3: 595-TPS77633DRG4; Eco-Plan: Green (RoHS & no Sb/Br); Vout Adj(Max)(V): 3.3; Vout Adj(Min)(V): 3.3; Mounting Technology: Surface Mount; Code_JEDEC: MS-012; ComponentLink1Description: Manufacturer URL; ComponentLink1URL: http://www.ti.com/; ComponentLink2Description: Datasheet; ComponentLink2URL: http://www.ti.com/general/docs/lit/getliterature.tsp?genericPartNumber=TPS77633&fileType=pdf; ComponentLink3Description: Package Specification; ComponentLink3URL: http://www.ti.com/litv/pdf/msoi002j
footprint TI-D8_N (SOIC, 8-Leads, Body 4.9x3.9mm, Pitch 1.27mm, IPC Medium Density)
footprint TI-D8_L (SOIC, 8-Leads, Body 4.9x3.9mm, Pitch 1.27mm, IPC High Density)
footprint TI-D8_M (SOIC, 8-Leads, Body 4.9x3.9mm, Pitch 1.27mm, IPC Low Density)
pins: 1 GND (power) "Ground", 2 ~{EN} (in) "Negative polarity enable (E\N\) input", 3 IN (power) "Input voltage", 4 IN (power) "Input voltage", 5 OUT (power) "Regulated output voltage", 6 OUT (power) "Regulated output voltage", 7 NC "No internal connection", 8 PG (hiz) "Open-drain power-good (PG) output."

## TPS77633PWP
designator U?
Single Output Fast Transient Response LDO, 500 mA, Fixed 3.3 V Output, 2.7 to 10 V Input, with Power Good Output, 20-pin HTSSOP (PWP), -40 to 125 degC, Green (RoHS & no Sb/Br); Manufacturer: Texas Instruments; PartNumber: TPS77633PWP; Accuracy(%): 2; Fixed Output Options(V): 3.3; Iout(Max)(A): 0.5; Iq(Typ)(mA): 0.08; Power Good: TRUE; SubFamily: Single Channel LDO; Vdo(Typ)(mV): 169; Vin(Max)(V): 10; Vin(Min)(V): 2.7; DatasheetVersion: SLVS232J; PackageVersion: 4073225-4/I; PackageReference: PWP20-2980X2000TP; PackageDescription: 20-Pin Plastic Small Outline, Body 4.4 x 6.5 mm, Pitch 0.65 mm; Supplier 1: Digi-Key; Supplier Part Number 1: 296-8131-5-ND; Supplier 2: Newark; Supplier Part Number 2: 77C1277; Supplier 3: Mouser; Supplier Part Number 3: 595-TPS77633PWP; Eco-Plan: Green (RoHS & no Sb/Br); Vout Adj(Max)(V): 3.3; Vout Adj(Min)(V): 3.3; Mounting Technology: Surface Mount; Code_JEDEC: MO-153; ComponentLink1Description: Manufacturer URL; ComponentLink1URL: http://www.ti.com/; ComponentLink2Description: Datasheet; ComponentLink2URL: http://www.ti.com/general/docs/lit/getliterature.tsp?genericPartNumber=TPS77633&fileType=pdf; ComponentLink3Description: Package Specification; ComponentLink3URL: http://www.ti.com/litv/pdf/mhts001g
footprint TI-PWP20-2980X2000TP_N (SOP, 20-Leads, Body 6.5x4.4mm, Pitch 0.65mm, Thermal Pad 2.975x2 mm, IPC Medium Density)
footprint TI-PWP20-2980X2000TP_L (SOP, 20-Leads, Body 6.5x4.4mm, Pitch 0.65mm, Thermal Pad 2.975x2 mm, IPC High Density)
footprint TI-PWP20-2980X2000TP_M (SOP, 20-Leads, Body 6.5x4.4mm, Pitch 0.65mm, Thermal Pad 2.975x2 mm, IPC Low Density)
part A pins: 5 ~{EN} (in) "Negative polarity enable (E\N\) input", 6 IN (power) "Input voltage", 7 IN (power) "Input voltage", 13 OUT (power) "Regulated output voltage", 14 OUT (power) "Regulated output voltage", 16 PG (hiz) "open-drain power-good (PG) output."
part B pins: 1 GND (power) "Ground", 2 GND (power) "Ground", 3 GND (power) "Ground", 9 GND (power) "Ground", 10 GND (power) "Ground", 11 GND (power) "Ground", 12 GND (power) "Ground", 19 GND (power) "Ground", 20 GND (power) "Ground", 21 EP (power) "Should be soldered to ground plane and used for heat sinking."
part C pins: 4 NC "No internal connection", 8 NC "No internal connection", 15 NC "No internal connection", 17 NC "No internal connection", 18 NC "No internal connection"

## TPS77633PWPG4
designator U?
Single Output Fast Transient Response LDO, 500 mA, Fixed 3.3 V Output, 2.7 to 10 V Input, with Power Good Output, 20-pin HTSSOP (PWP), -40 to 125 degC, Green (RoHS & no Sb/Br); Manufacturer: Texas Instruments; PartNumber: TPS77633PWPG4; Accuracy(%): 2; Fixed Output Options(V): 3.3; Iout(Max)(A): 0.5; Iq(Typ)(mA): 0.08; Power Good: TRUE; SubFamily: Single Channel LDO; Vdo(Typ)(mV): 169; Vin(Max)(V): 10; Vin(Min)(V): 2.7; DatasheetVersion: SLVS232J; PackageVersion: 4073225-4/I; PackageReference: PWP20-2980X2000TP; PackageDescription: 20-Pin Plastic Small Outline, Body 4.4 x 6.5 mm, Pitch 0.65 mm; Supplier 1: Digi-Key; Supplier Part Number 1: TPS77633PWPG4-ND; Supplier 2: Mouser; Supplier Part Number 2: 595-TPS77633PWPG4; Eco-Plan: Green (RoHS & no Sb/Br); Vout Adj(Max)(V): 3.3; Vout Adj(Min)(V): 3.3; Mounting Technology: Surface Mount; Code_JEDEC: MO-153; ComponentLink1Description: Manufacturer URL; ComponentLink1URL: http://www.ti.com/; ComponentLink2Description: Datasheet; ComponentLink2URL: http://www.ti.com/general/docs/lit/getliterature.tsp?genericPartNumber=TPS77633&fileType=pdf; ComponentLink3Description: Package Specification; ComponentLink3URL: http://www.ti.com/litv/pdf/mhts001g
footprint TI-PWP20-2980X2000TP_N (SOP, 20-Leads, Body 6.5x4.4mm, Pitch 0.65mm, Thermal Pad 2.975x2 mm, IPC Medium Density)
footprint TI-PWP20-2980X2000TP_L (SOP, 20-Leads, Body 6.5x4.4mm, Pitch 0.65mm, Thermal Pad 2.975x2 mm, IPC High Density)
footprint TI-PWP20-2980X2000TP_M (SOP, 20-Leads, Body 6.5x4.4mm, Pitch 0.65mm, Thermal Pad 2.975x2 mm, IPC Low Density)
part A pins: 5 ~{EN} (in) "Negative polarity enable (E\N\) input", 6 IN (power) "Input voltage", 7 IN (power) "Input voltage", 13 OUT (power) "Regulated output voltage", 14 OUT (power) "Regulated output voltage", 16 PG (hiz) "open-drain power-good (PG) output."
part B pins: 1 GND (power) "Ground", 2 GND (power) "Ground", 3 GND (power) "Ground", 9 GND (power) "Ground", 10 GND (power) "Ground", 11 GND (power) "Ground", 12 GND (power) "Ground", 19 GND (power) "Ground", 20 GND (power) "Ground", 21 EP (power) "Should be soldered to ground plane and used for heat sinking."
part C pins: 4 NC "No internal connection", 8 NC "No internal connection", 15 NC "No internal connection", 17 NC "No internal connection", 18 NC "No internal connection"

## TPS77633PWPR
designator U?
Single Output Fast Transient Response LDO, 500 mA, Fixed 3.3 V Output, 2.7 to 10 V Input, with Power Good Output, 20-pin HTSSOP (PWP), -40 to 125 degC, Green (RoHS & no Sb/Br); Manufacturer: Texas Instruments; PartNumber: TPS77633PWPR; Accuracy(%): 2; Fixed Output Options(V): 3.3; Iout(Max)(A): 0.5; Iq(Typ)(mA): 0.08; Power Good: TRUE; SubFamily: Single Channel LDO; Vdo(Typ)(mV): 169; Vin(Max)(V): 10; Vin(Min)(V): 2.7; DatasheetVersion: SLVS232J; PackageVersion: 4073225-4/I; PackageReference: PWP20-2980X2000TP; PackageDescription: 20-Pin Plastic Small Outline, Body 4.4 x 6.5 mm, Pitch 0.65 mm; Supplier 1: Digi-Key; Supplier Part Number 1: TPS77633PWPR-ND; Supplier 2: Mouser; Supplier Part Number 2: 595-TPS77633PWPR; Eco-Plan: Green (RoHS & no Sb/Br); Vout Adj(Max)(V): 3.3; Vout Adj(Min)(V): 3.3; Mounting Technology: Surface Mount; Code_JEDEC: MO-153; ComponentLink1Description: Manufacturer URL; ComponentLink1URL: http://www.ti.com/; ComponentLink2Description: Datasheet; ComponentLink2URL: http://www.ti.com/general/docs/lit/getliterature.tsp?genericPartNumber=TPS77633&fileType=pdf; ComponentLink3Description: Package Specification; ComponentLink3URL: http://www.ti.com/litv/pdf/mhts001g
footprint TI-PWP20-2980X2000TP_N (SOP, 20-Leads, Body 6.5x4.4mm, Pitch 0.65mm, Thermal Pad 2.975x2 mm, IPC Medium Density)
footprint TI-PWP20-2980X2000TP_L (SOP, 20-Leads, Body 6.5x4.4mm, Pitch 0.65mm, Thermal Pad 2.975x2 mm, IPC High Density)
footprint TI-PWP20-2980X2000TP_M (SOP, 20-Leads, Body 6.5x4.4mm, Pitch 0.65mm, Thermal Pad 2.975x2 mm, IPC Low Density)
part A pins: 5 ~{EN} (in) "Negative polarity enable (E\N\) input", 6 IN (power) "Input voltage", 7 IN (power) "Input voltage", 13 OUT (power) "Regulated output voltage", 14 OUT (power) "Regulated output voltage", 16 PG (hiz) "open-drain power-good (PG) output."
part B pins: 1 GND (power) "Ground", 2 GND (power) "Ground", 3 GND (power) "Ground", 9 GND (power) "Ground", 10 GND (power) "Ground", 11 GND (power) "Ground", 12 GND (power) "Ground", 19 GND (power) "Ground", 20 GND (power) "Ground", 21 EP (power) "Should be soldered to ground plane and used for heat sinking."
part C pins: 4 NC "No internal connection", 8 NC "No internal connection", 15 NC "No internal connection", 17 NC "No internal connection", 18 NC "No internal connection"

## TPS77633PWPRG4
designator U?
Single Output Fast Transient Response LDO, 500 mA, Fixed 3.3 V Output, 2.7 to 10 V Input, with Power Good Output, 20-pin HTSSOP (PWP), -40 to 125 degC, Green (RoHS & no Sb/Br); Manufacturer: Texas Instruments; PartNumber: TPS77633PWPRG4; Accuracy(%): 2; Fixed Output Options(V): 3.3; Iout(Max)(A): 0.5; Iq(Typ)(mA): 0.08; Power Good: TRUE; SubFamily: Single Channel LDO; Vdo(Typ)(mV): 169; Vin(Max)(V): 10; Vin(Min)(V): 2.7; DatasheetVersion: SLVS232J; PackageVersion: 4073225-4/I; PackageReference: PWP20-2980X2000TP; PackageDescription: 20-Pin Plastic Small Outline, Body 4.4 x 6.5 mm, Pitch 0.65 mm; Supplier 1: Digi-Key; Supplier Part Number 1: TPS77633PWPRG4-ND; Supplier 2: Mouser; Supplier Part Number 2: 595-TPS77633PWPRG4; Eco-Plan: Green (RoHS & no Sb/Br); Vout Adj(Max)(V): 3.3; Vout Adj(Min)(V): 3.3; Mounting Technology: Surface Mount; Code_JEDEC: MO-153; ComponentLink1Description: Manufacturer URL; ComponentLink1URL: http://www.ti.com/; ComponentLink2Description: Datasheet; ComponentLink2URL: http://www.ti.com/general/docs/lit/getliterature.tsp?genericPartNumber=TPS77633&fileType=pdf; ComponentLink3Description: Package Specification; ComponentLink3URL: http://www.ti.com/litv/pdf/mhts001g
footprint TI-PWP20-2980X2000TP_N (SOP, 20-Leads, Body 6.5x4.4mm, Pitch 0.65mm, Thermal Pad 2.975x2 mm, IPC Medium Density)
footprint TI-PWP20-2980X2000TP_L (SOP, 20-Leads, Body 6.5x4.4mm, Pitch 0.65mm, Thermal Pad 2.975x2 mm, IPC High Density)
footprint TI-PWP20-2980X2000TP_M (SOP, 20-Leads, Body 6.5x4.4mm, Pitch 0.65mm, Thermal Pad 2.975x2 mm, IPC Low Density)
part A pins: 5 ~{EN} (in) "Negative polarity enable (E\N\) input", 6 IN (power) "Input voltage", 7 IN (power) "Input voltage", 13 OUT (power) "Regulated output voltage", 14 OUT (power) "Regulated output voltage", 16 PG (hiz) "open-drain power-good (PG) output."
part B pins: 1 GND (power) "Ground", 2 GND (power) "Ground", 3 GND (power) "Ground", 9 GND (power) "Ground", 10 GND (power) "Ground", 11 GND (power) "Ground", 12 GND (power) "Ground", 19 GND (power) "Ground", 20 GND (power) "Ground", 21 EP (power) "Should be soldered to ground plane and used for heat sinking."
part C pins: 4 NC "No internal connection", 8 NC "No internal connection", 15 NC "No internal connection", 17 NC "No internal connection", 18 NC "No internal connection"